# EAGLE library part 74LVCH1T45 (library mbed-HDK-IC)
Bidirectional level translator
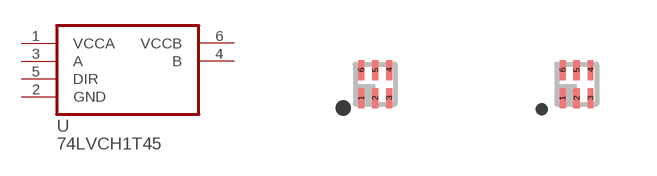
[diagram p6: symbol with the pads of SOT891; footprints SOT891, SOT1202]

Designator prefix U

## 74LVCH1T45_SOT891 (MF: NXP; MFN: 74LVCH1T45GF,132; OC-DIGIKEY: 568-5492-1-ND; OC-NEWARK: 25T0079)  [SOT891]
1  VCCA
2  GND
3  A
4  B
5  DIR
6  VCCB

## 74LVCH1T45_SOT1202 (MF: NXP; MFN: 74LVCH1T45GS,132; OC-DIGIKEY: 74LVCH1T45GS,132-ND; OC-MOUSER: 771-74LVCH1T45GS132)  [SOT1202]
Pads as for SOT891

## 74LVCH1T45_SOT886 (MF: NXP; MFN: 74LVCH1T45GM,132; OC-DIGIKEY: 568-5493-1-ND; OC-MOUSER: 771-74LVCH1T45GM132)  [SOT886]
Pads as for SOT891

## 74LVCH1T45_SOT1115 (MF: NXP; MFN: 74LVCH1T45GN,132; OC-DIGIKEY: 74LVCH1T45GN,132-ND; OC-MOUSER: 771-74LVCH1T45GN,132)  [SOT1115]
Pads as for SOT891

## 74LVCH1T45_SOT363 (MF: NXP; MFN: 74LVCH1T45GW,125; OC-DIGIKEY: 568-5494-1-ND; OC-MOUSER: 771-74LVCH1T45GW125)  [SOT363]
Pads as for SOT891

## Footprint SOT891 (pad centres in mm)
SOT891 XSON6: plastic extremely thin small outline package; no leads; 6 terminals; body 1 x 1 x 0.5 mm JEDEC: -- IEC: ---
smd 0.15 x 0.5: 1 -0.35,-0.35; 2 0,-0.35; 3 0.35,-0.35; 4 0.35,0.35; 5 0,0.35; 6 -0.35,0.35

## Footprint SOT1202 (pad centres in mm)
SOT1202 XSON6: extremely thin small outline package; no leads; 6 terminals; body 1.0 x 1.0 x 0.35 mm JEDEC: --- IEC: ---
smd 0.15 x 0.5: 1 -0.35,-0.35; 2 0,-0.35; 3 0.35,-0.35; 4 0.35,0.35; 5 0,0.35; 6 -0.35,0.35

## Footprint SOT886 (pad centres in mm)
SOT886 XSON6: plastic extremely thin small outline package; no leads; 6 terminals; body 1 x 1.45 x 0.5 mm JEDEC: MO-252 IEC: ---
smd 0.27 x 0.325: 1 -0.5,-0.338; 2 0,-0.338; 3 0.5,-0.338; 4 0.5,0.338; 5 0,0.338; 6 -0.5,0.338

## Footprint SOT1115 (pad centres in mm)
!!!!!!Experimental, not tested!!!!!!!!!!!! MK SOT1115 XSON6: extremely thin small outline package; no leads; 6 terminals; body 0.9 x 1.0 x 0.35 mm JEDEC: -- IEC: -- JEITA: --
smd 0.22 x 0.325: 1 -0.3,-0.312; 2 0,-0.312; 3 0.3,-0.312; 4 0.3,0.312; 5 0,0.312; 6 -0.3,0.312

## Footprint SOT363 (pad centres in mm)
SOT363 Plastic surface-mounted package; 6 leads JEDEC: -- IEC: -- JEITA: SC-88
smd 0.6 x 0.6: 1 -0.75,-0.9; 3 0.75,-0.9; 4 0.75,0.9; 6 -0.75,0.9
smd 0.4 x 0.6: 2 0,-0.9; 5 0,0.9